# EAGLE library part 64900821122 (library Wuerth_Elektronik_eiCan_07_Mini_Power_Connectors)
WR-MPC4 4.20mm Male Dual Row Vertical Header, 8 Pins
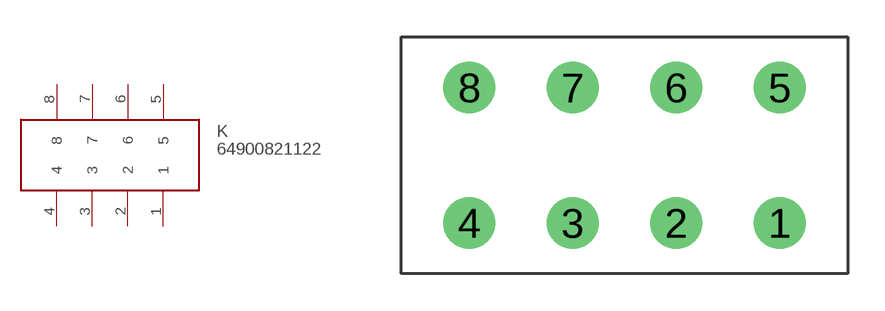
[diagram p31: symbol with the pads of 64900821122; footprint 64900821122]

Designator prefix K

## 64900821122  [64900821122]
1  1
2  2
3  3
4  4
5  5
6  6
7  7
8  8

## Footprint 64900821122 (pad centres in mm)
WR-MPC4 4.20mm Male Dual Row Vertical Header, 8 Pins
drill 1.4 round: 1 0,-2.75; 2 -4.2,-2.75; 3 -8.4,-2.75; 4 -12.6,-2.75; 5 0,2.75; 6 -4.2,2.75; 7 -8.4,2.75; 8 -12.6,2.75